# EAGLE library part LTC6246 (library op-amp)
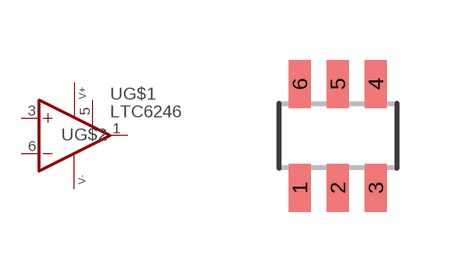
[diagram p64: symbol with the pads of TSOT23-6; footprint TSOT23-6]

Designator prefix U; gates G$1=OPAMP_SHDN G$2=PWRN_V+-

## LTC6246 (DIGIKEY: LTC6246HS6#TRMPBFCT-ND; P1I: o)  [TSOT23-6]
1  G$1:OUT  out
2  G$2:V-  pwr
3  G$1:+IN  in
4  G$2:V+  pwr
5  G$1:SHDN  pas
6  G$1:-IN  in

## Footprint TSOT23-6 (pad centres in mm)
TSOT-23 - S6 0.95 mm pitch
smd 0.55 x 1.2: 1 -0.95,-1.3; 2 0,-1.3; 3 0.95,-1.3; 4 0.95,1.3; 5 0,1.3; 6 -0.95,1.3